# Altium footprint library NEW_PCB_2025-04-07.PcbLib: 1 footprints
Each footprint in its own frame and in the unit in brackets; x right, y up, seen from the top. Pads: shape width x height; smd on the part's side, far side on the other; paste and mask are expansions set on the pad; w line width, h text height; cw(c..) or ccw(c..) is an arc to the next point about the centre after c.
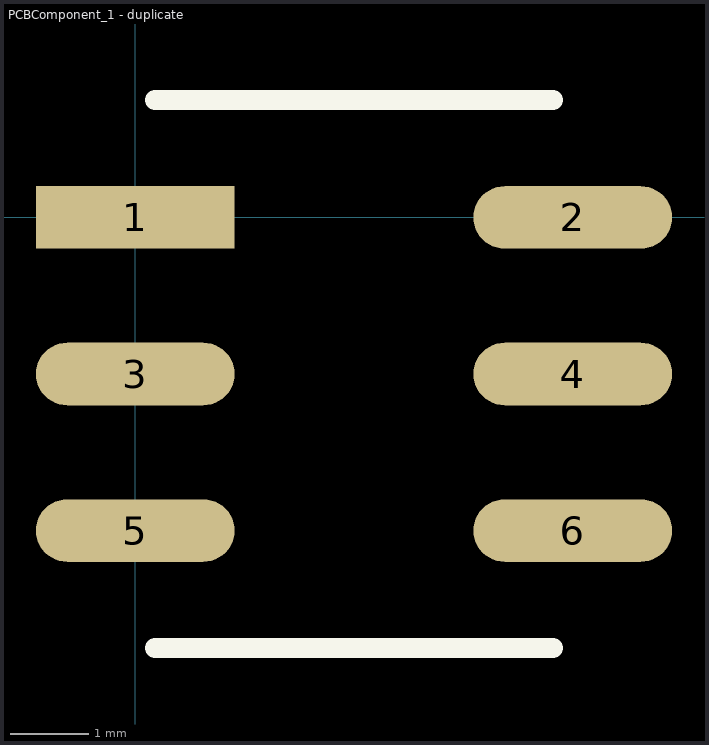
[diagram p0: the footprint, top view; thin cyan lines are the x and y axes]

## PCBComponent_1 - duplicate [mm]
pads (6):
  rect 2.54x0.8 smd paste+0 mask+0.102: 1(0,0)
  oval 2.54x0.8 smd paste+0 mask+0.102: 2(5.588,0) 3(0,-2) 4(5.588,-2) 5(0,-4) 6(5.588,-4)
Top Overlay:
  lines w0.254: 0.254,-5.5 5.334,-5.5 ; 0.254,1.5 5.334,1.5